# Altium footprint library 20181020.PcbLib: 27 footprints (part 2 of 2)
Each footprint in its own frame and in the unit in brackets; x right, y up, seen from the top. Pads: shape width x height; smd on the part's side, far side on the other; paste and mask are expansions set on the pad; w line width, h text height; cw(c..) or ccw(c..) is an arc to the next point about the centre after c.
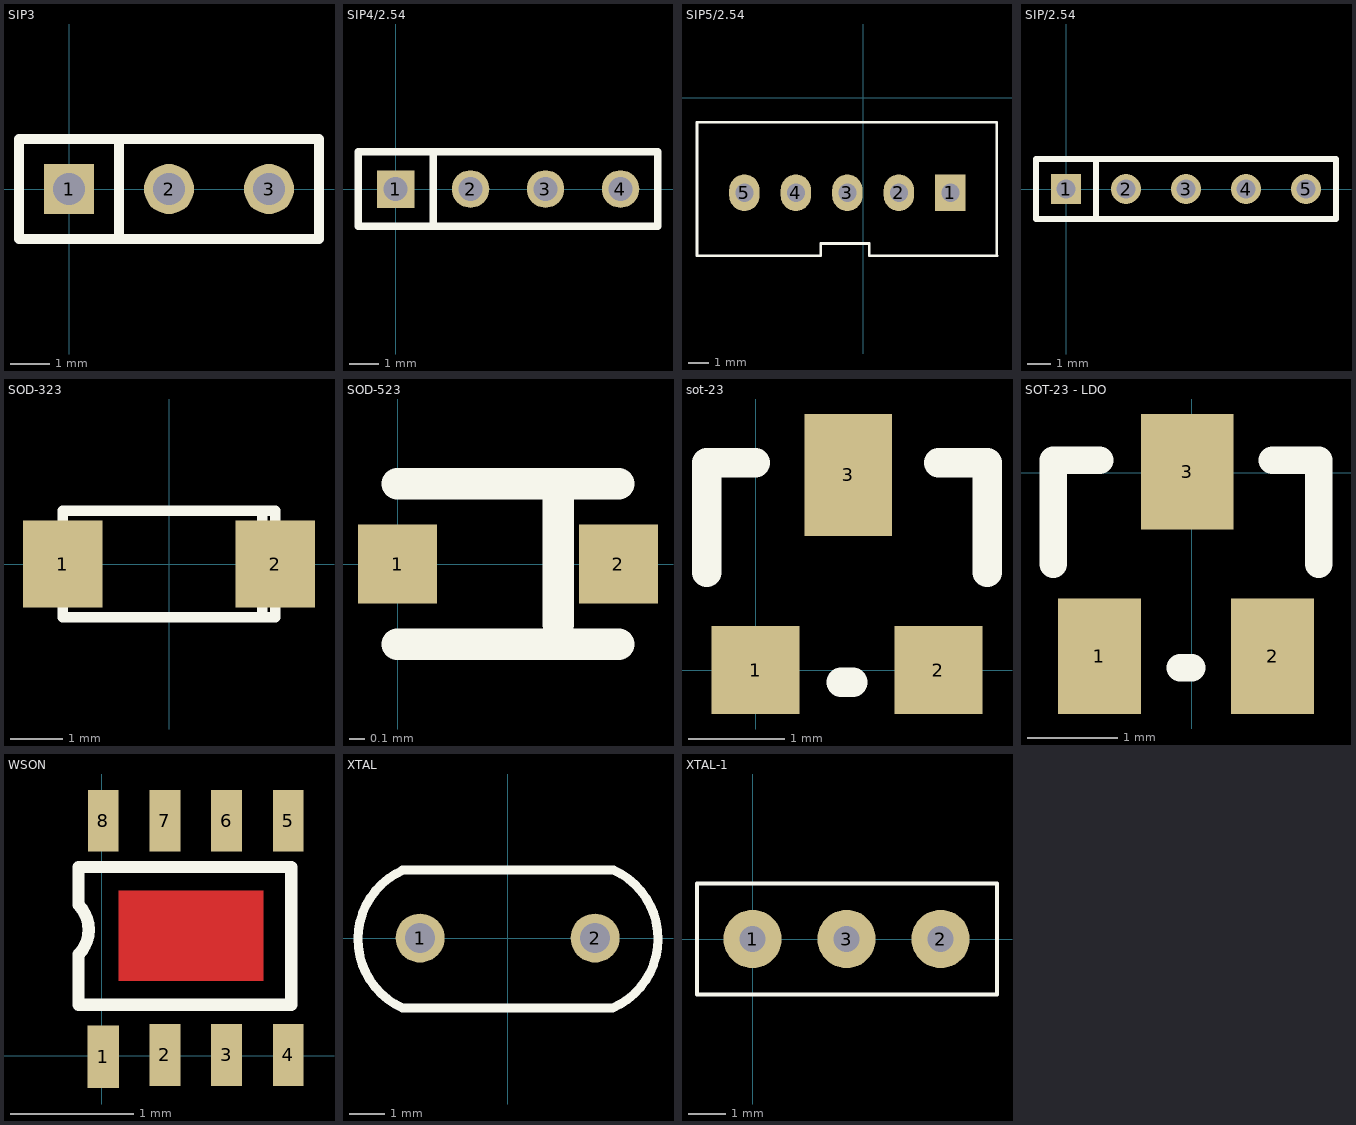
[diagram p1: the footprints below, top view; thin cyan lines are the x and y axes]

## SIP3 [mil]
pads (3):
  rect 50x50 hole 32: 1(0,0)
  round 50 hole 32: 2(100,0) 3(200,0)
Top Overlay:
  lines w10: 50,-50 50,50 ; -50,-50 250,-50 250,50 -50,50 -50,-50

## SIP4/2.54 [mil]
pads (4):
  rect 50x50 hole 32: 1(0,0)
  round 50 hole 32: 2(100,0) 3(200,0) 4(300,0)
Top Overlay:
  lines w10: 50,-50 50,50 ; -50,-50 -50,50 350,50 350,-50 -50,-50

## SIP5/2.54 [mm]
pads (5):
  rect 1.5x1.8 hole 0.9: 1(4.3,-4.7)
  oval 1.5x1.8 hole 0.9: 2(1.76,-4.7) 3(-0.78,-4.7) 4(-3.32,-4.7) 5(-5.86,-4.7)
Top Overlay:
  lines w0.127: 6.59,-7.79 6.59,-1.225 -8.2,-1.225 -8.2,-7.8 -7.4,-7.8 -2.1,-7.8 -2.1,-7.2 0.3,-7.2 0.3,-7.8 5.8,-7.8 6.6,-7.8

## SIP/2.54 [mil]
pads (5):
  rect 50x50 hole 32: 1(0,0)
  round 50 hole 32: 2(100,0) 3(200,0) 4(300,0) 5(400,0)
Top Overlay:
  lines w10: 50,-50 50,50 ; -50,-50 450,-50 450,50 -50,50 -50,-50

## SOD-323 [mm]
pads (2):
  rect 1.52x1.67 smd: 1(-2.032,0) 2(2.032,0)
Top Overlay:
  lines w0.2: 1.778,-1.016 1.778,1.016 ; -2.032,-1.016 2.032,-1.016 2.032,1.016 -2.032,1.016 -2.032,0.508 -2.032,-1.016

## SOD-523 [mm]
pads (2):
  rect 0.5x0.5 smd: 1(0,0) 2(1.397,0)
Top Overlay:
  lines w0.2: 0,-0.508 1.397,-0.508 ; 0,0.508 1.397,0.508 ; 1.016,-0.381 1.016,0.508

## sot-23 [mil]
pads (3):
  rect 36x36 smd: 1(0,0) 2(75,0)
  rect 36x50 smd: 3(38,80)
Top Overlay:
  lines w12: -20,40 -20,85 0,85 ; 35,-5 40,-5 ; 75,85 95,85 95,40

## SOT-23 - LDO [mil]
pads (3):
  rect 36x50 smd: 1(-39.97,-79.46) 2(35.03,-79.46)
  rect 40x50 smd: 3(-1.97,0.54)
Top Overlay:
  lines w12: -59.97,-39.46 -59.97,5.54 -39.97,5.54 ; -4.97,-84.46 0.03,-84.46 ; 35.03,5.54 55.03,5.54 55.03,-39.46

## WSON [mm]
pads (8):
  rect 0.254x0.508 smd: 1(0.013,-0.008)
  rect 0.25x0.5 smd: 2(0.513,0.008) 3(1.013,0.008) 4(1.513,0.008) 5(1.513,1.908) 6(1.013,1.908) 7(0.513,1.908) 8(0.013,1.908)
Top Layer:
  rectangle: 0.138,0.608 1.313,1.34
Top Overlay:
  lines w0.1: -0.187,0.416 -0.187,0.824 ccw(c-0.387,1.024) -0.187,1.224 -0.187,1.532 1.537,1.532 1.537,0.416 -0.187,0.416

## XTAL [mm]
pads (2):
  round 1.4 hole 0.85: 1(-2.5,0) 2(2.5,0)
Top Overlay:
  lines w0.254: -3,1.95 3,1.95 ; -2.977,1.947 ccw(c-2.116,-0.032) -3,-2 3,-2 ccw(c2.139,-0.022) 3.023,1.947

## XTAL-1 [mil]
pads (3):
  round 62 hole 28: 1(0,0) 2(200,0) 3(100,0)
Top Overlay:
  lines w3.94: -59.06,-59.06 260,-59.06 260,59.06 -59.06,59.06 -59.06,-59.06